# EAGLE library part SH_EK_TM4C1294XL_HALFV (library SH_EK_TM4c1294XL)
Low half shield for the TM4C1294 and TM4C123
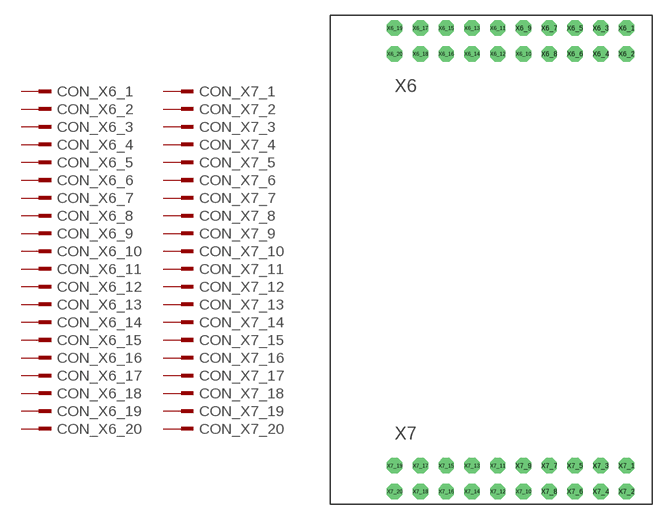
[diagram p2: symbol with the pads of EK-TM4C1294-HALFV; footprint EK-TM4C1294-HALFV]

Designator prefix CON; gates _X6_1=SYM_EK_TM4C1294XL_HALFV _X6_2=SYM_EK_TM4C1294XL_HALFV _X6_3=SYM_EK_TM4C1294XL_HALFV _X6_4=SYM_EK_TM4C1294XL_HALFV _X6_5=SYM_EK_TM4C1294XL_HALFV _X6_6=SYM_EK_TM4C1294XL_HALFV _X6_7=SYM_EK_TM4C1294XL_HALFV _X6_8=SYM_EK_TM4C1294XL_HALFV _X6_9=SYM_EK_TM4C1294XL_HALFV _X6_10=SYM_EK_TM4C1294XL_HALFV _X6_11=SYM_EK_TM4C1294XL_HALFV _X6_12=SYM_EK_TM4C1294XL_HALFV _X6_13=SYM_EK_TM4C1294XL_HALFV _X6_14=SYM_EK_TM4C1294XL_HALFV _X6_15=SYM_EK_TM4C1294XL_HALFV _X6_16=SYM_EK_TM4C1294XL_HALFV _X6_17=SYM_EK_TM4C1294XL_HALFV _X6_18=SYM_EK_TM4C1294XL_HALFV _X6_19=SYM_EK_TM4C1294XL_HALFV _X6_20=SYM_EK_TM4C1294XL_HALFV _X7_1=SYM_EK_TM4C1294XL_HALFV _X7_2=SYM_EK_TM4C1294XL_HALFV _X7_3=SYM_EK_TM4C1294XL_HALFV _X7_4=SYM_EK_TM4C1294XL_HALFV _X7_5=SYM_EK_TM4C1294XL_HALFV _X7_6=SYM_EK_TM4C1294XL_HALFV _X7_7=SYM_EK_TM4C1294XL_HALFV _X7_8=SYM_EK_TM4C1294XL_HALFV _X7_9=SYM_EK_TM4C1294XL_HALFV _X7_10=SYM_EK_TM4C1294XL_HALFV _X7_11=SYM_EK_TM4C1294XL_HALFV _X7_12=SYM_EK_TM4C1294XL_HALFV _X7_13=SYM_EK_TM4C1294XL_HALFV _X7_14=SYM_EK_TM4C1294XL_HALFV _X7_15=SYM_EK_TM4C1294XL_HALFV _X7_16=SYM_EK_TM4C1294XL_HALFV _X7_17=SYM_EK_TM4C1294XL_HALFV _X7_18=SYM_EK_TM4C1294XL_HALFV _X7_19=SYM_EK_TM4C1294XL_HALFV _X7_20=SYM_EK_TM4C1294XL_HALFV

## SH_EK_TM4C1294XL_HALFV  [EK-TM4C1294-HALFV]
X6_1  _X6_1:1  pas
X6_2  _X6_2:1  pas
X6_3  _X6_3:1  pas
X6_4  _X6_4:1  pas
X6_5  _X6_5:1  pas
X6_6  _X6_6:1  pas
X6_7  _X6_7:1  pas
X6_8  _X6_8:1  pas
X6_9  _X6_9:1  pas
X6_10  _X6_10:1  pas
X6_11  _X6_11:1  pas
X6_12  _X6_12:1  pas
X6_13  _X6_13:1  pas
X6_14  _X6_14:1  pas
X6_15  _X6_15:1  pas
X6_16  _X6_16:1  pas
X6_17  _X6_17:1  pas
X6_18  _X6_18:1  pas
X6_19  _X6_19:1  pas
X6_20  _X6_20:1  pas
X7_1  _X7_1:1  pas
X7_2  _X7_2:1  pas
X7_3  _X7_3:1  pas
X7_4  _X7_4:1  pas
X7_5  _X7_5:1  pas
X7_6  _X7_6:1  pas
X7_7  _X7_7:1  pas
X7_8  _X7_8:1  pas
X7_9  _X7_9:1  pas
X7_10  _X7_10:1  pas
X7_11  _X7_11:1  pas
X7_12  _X7_12:1  pas
X7_13  _X7_13:1  pas
X7_14  _X7_14:1  pas
X7_15  _X7_15:1  pas
X7_16  _X7_16:1  pas
X7_17  _X7_17:1  pas
X7_18  _X7_18:1  pas
X7_19  _X7_19:1  pas
X7_20  _X7_20:1  pas

## Footprint EK-TM4C1294-HALFV (pad centres in mm)
drill 1 pad 1.5 octagon: X6_1 7.62,22.86; X6_2 7.62,20.32; X6_3 5.08,22.86; X6_4 5.08,20.32; X6_5 2.54,22.86; X6_6 2.54,20.32; X6_7 0,22.86; X6_8 0,20.32; X6_9 -2.54,22.86; X6_10 -2.54,20.32; X6_11 -5.08,22.86; X6_12 -5.08,20.32; X6_13 -7.62,22.86; X6_14 -7.62,20.32; X6_15 -10.16,22.86; X6_16 -10.16,20.32; X6_17 -12.7,22.86; X6_18 -12.7,20.32; X6_19 -15.24,22.86; X6_20 -15.24,20.32; X7_1 7.62,-20.32; X7_2 7.62,-22.86; X7_3 5.08,-20.32; X7_4 5.08,-22.86; X7_5 2.54,-20.32; X7_6 2.54,-22.86; X7_7 0,-20.32; X7_8 0,-22.86; X7_9 -2.54,-20.32; X7_10 -2.54,-22.86; X7_11 -5.08,-20.32; X7_12 -5.08,-22.86; X7_13 -7.62,-20.32; X7_14 -7.62,-22.86; X7_15 -10.16,-20.32; X7_16 -10.16,-22.86; X7_17 -12.7,-20.32; X7_18 -12.7,-22.86; X7_19 -15.24,-20.32; X7_20 -15.24,-22.86